# Altium footprint library jointbar.PCBLIB: 193 footprints (part 9 of 13)
Each footprint in its own frame and in the unit in brackets; x right, y up, seen from the top. Pads: shape width x height; smd on the part's side, far side on the other; paste and mask are expansions set on the pad; w line width, h text height; cw(c..) or ccw(c..) is an arc to the next point about the centre after c.
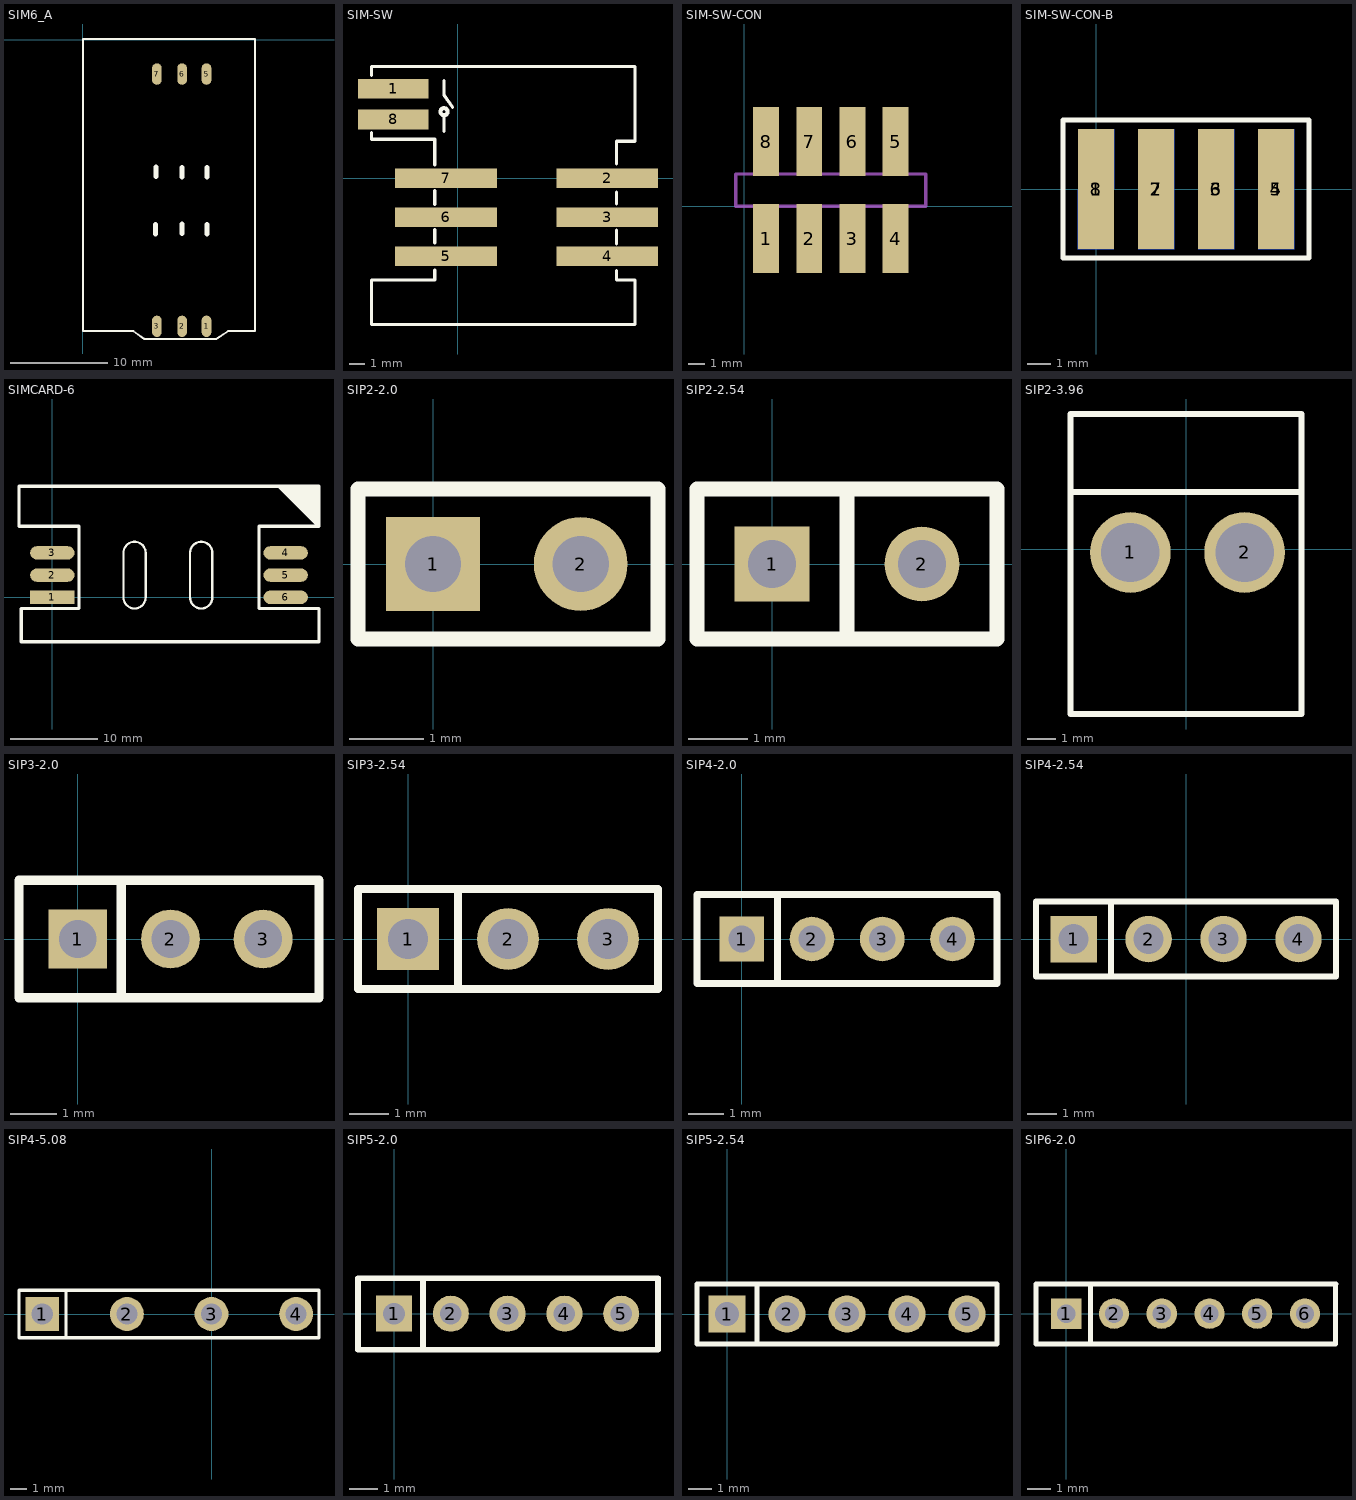
[diagram p8: the footprints below, top view; thin cyan lines are the x and y axes]

## SIM6_A [mm]
pads (6):
  oval 1x2.2 smd: 1(12.709,-29.411) 2(10.209,-29.411) 3(7.609,-29.411) 5(12.709,-3.511) 6(10.209,-3.511) 7(7.609,-3.511)
TopOverlay:
  lines w0.203: 0.009,-29.911 0.009,0.089 17.709,0.089 17.709,-29.911 14.909,-29.911 13.709,-30.711 6.309,-30.711 5.209,-29.911 0.009,-29.911
  lines w0.508: 7.483,-19.931 7.483,-18.931 ; 7.534,-14.048 7.534,-13.048 ; 10.201,-19.905 10.201,-18.905 ; 10.201,-14.089 10.201,-13.089 ; 12.741,-19.956 12.741,-18.956 ; 12.741,-14.089 12.741,-13.089

## SIM-SW [mil]
pads (8):
  rect 180x50 smd: 1(-164.96,228.74) 8(-164.96,150)
  rect 260x50 smd: 2(382.24,0) 3(382.24,-100) 4(382.24,-200) 5(-30,-200) 6(-30,-100) 7(-30,0)
TopOverlay:
  circle w10: c-35.06,170 r9.06
  lines w8: -220.08,116.92 -220.08,99.41 -58.66,99.41 -58.66,34.34 ; -220.08,262.92 -220.08,285.24 453.15,285.24 453.15,94.29 405.91,94.29 406,94.29 406,36 ; -195,-374.21 453.15,-374.21 ; -164,-374.21 -220.08,-374.21 -220.08,-260.04 -158.08,-260.04 -58.66,-260.04 -58.66,-235.66 ; -58.66,-165.66 -58.66,-132 ; -58.66,-67 -58.66,-32 ; -35,120 -35,160 ; -35,250 -35,213 -13,181 ; 405.91,-235.91 405.91,-260.04 453.15,-260.04 453.15,-374.21 ; 405.91,-168 405.91,-133 ; 405.91,-66 405.91,-35 ; 424,-374.21 453.15,-374.21

## SIM-SW-CON [mil]
pads (8):
  rect 60x160 all layers, no hole: 1(50,-75) 2(150,-75) 3(250,-75) 4(350,-75) 5(350,150) 6(250,150) 7(150,150) 8(50,150)
BottomOverlay:
  lines w7: -20,0.57 -110,0.57 -110,74.57 -20,74.57 ; 420,-2.43 585,-2.43 585,74.57 420,74.57
  lines w8: -15,-165 420,-165 420,245 -20,245 -20,-165 10,-165
Mechanical1:
  lines w8: -20,0 420,0 420,74.8 -20,74.8 -20,0

## SIM-SW-CON-B [mil]
pads (8):
  rect 60x200 smd: 1(0,0) 2(100,0) 3(200,0) 4(300,0)
  rect 60x200 smd far side: 5(300,0) 6(200,0) 7(100,0) 8(0,0)
TopOverlay:
  lines w8: -55,-115 355,-115 355,115 -55,115 -55,-115

## SIMCARD-6 [mil]
pads (6):
  rect 200x60 smd: 1(0,0)
  oval 200x60 smd: 2(0,100) 3(0,200) 4(1050,200) 5(1050,100) 6(1050,0)
TopOverlay:
  lines w10: 320,0 ccw(c370,0) 420,0 420,200 ccw(c370,200) 320,200 320,0 ; 620,0 ccw(c670,0) 720,0 720,200 ccw(c670,200) 620,200 620,0
  lines w15: 1020,500 1200,320 ; 1040,500 1200,340 ; 1060,500 1200,360 ; 1080,500 1200,380 ; 1100,500 1200,400 ; 1120,500 1200,420 ; 1140,500 1200,440 ; 1160,500 1200,460 ; 1180,500 1200,480 ; 1200,320 930,320 930,-50 1200,-50 1200,-200 -140,-200 -140,-50 120,-50 120,320 -150,320 -150,500 1200,500 1200,320

## SIP2-2.0 [mil]
pads (2):
  rect 50x50 hole 30: 1(0,0)
  round 50 hole 30: 2(78.74,0)
TopOverlay:
  lines w8: -40,-40 -40,40 120,40 120,-40 -40,-40

## SIP2-2.54 [mil]
pads (2):
  rect 50x50 hole 32: 1(0,0)
  round 50 hole 32: 2(100,0)
TopOverlay:
  lines w10: 50,-50 50,50 ; -50,-50 150,-50 150,50 -50,50 -50,-50

## SIP2-3.96 [mil]
pads (2):
  round 110 hole 80: 1(-75.91,-4.25) 2(80,-4.25)
TopOverlay:
  lines w8: -157.48,78.42 157.48,78.42 ; -157.48,-224.72 -157.48,184.72 157.48,184.72 157.48,-224.72 -157.48,-224.72

## SIP3-2.0 [mil]
pads (3):
  rect 50x50 hole 32: 1(0,0)
  round 50 hole 32: 2(78.74,0) 3(157.48,0)
TopOverlay:
  lines w8: 37,50 37,-49 38,-50 ; -50,-50 205,-50 205,50 -50,50 -50,-50

## SIP3-2.54 [mil]
pads (3):
  rect 62x62 hole 40: 1(0,0)
  round 62 hole 40: 2(100,0) 3(200,0)
TopOverlay:
  lines w8: 50,-50 50,50 ; -50,-50 250,-50 250,50 -50,50 -50,-50

## SIP4-2.0 [mil]
pads (4):
  rect 50x50 hole 30: 1(0,0)
  round 50 hole 30: 2(78.74,0) 3(157.48,0) 4(236.22,0)
TopOverlay:
  lines w8: 40,-50 40,50 ; -50,-50 -50,50 286,50 286,-50 -50,-50

## SIP4-2.54 [mil]
pads (4):
  rect 62x62 hole 40: 1(-150,0)
  round 62 hole 40: 2(-50,0) 3(50,0) 4(150,0)
TopOverlay:
  lines w8: -100,-50 -100,50 ; -200,-50 200,-50 200,50 -200,50 -200,-50

## SIP4-5.08 [mil]
pads (4):
  rect 80x80 hole 50: 1(-400,0)
  round 80 hole 50: 2(-200,0) 3(0,0) 4(200,0)
TopOverlay:
  lines w8: -455,-56 254,-56 254,56 -455,56 ; -455,-55 -455,55 ; -344,-56 -344,56

## SIP5-2.0 [mil]
pads (5):
  rect 50x50 hole 30: 1(0,0)
  round 50 hole 30: 2(78.74,0) 3(157.48,0) 4(236.22,0) 5(314.96,0)
TopOverlay:
  lines w8: 40,-50 40,47 ; -50,-50 366,-50 366,49 -50,49 -50,-50

## SIP5-2.54 [mil]
pads (5):
  rect 62x62 hole 40: 1(0,0)
  round 62 hole 40: 2(100,0) 3(200,0) 4(300,0) 5(400,0)
TopOverlay:
  lines w8: 50,-50 50,50 ; -50,-50 -50,50 450,50 450,-50 -50,-50

## SIP6-2.0 [mil]
pads (6):
  rect 50x50 hole 30: 1(0,0)
  round 50 hole 30: 2(78.74,0) 3(157.48,0) 4(236.22,0) 5(314.96,0) 6(393.7,0)
TopOverlay:
  lines w8: 40,-49 40,49 ; -50,-50 444,-50 444,48 445,49 -50,49 -50,-50